# Altium schematic symbol library INDUCTOR.SchLib: 1 symbol
Pins are listed as number, name and electrical type; pins without a type are passive.

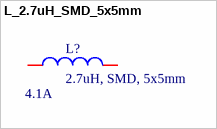
[diagram p0: symbol L_2.7uH_SMD_5x5mm]

## L_2.7uH_SMD_5x5mm
designator L?, comment 2.7uH, SMD, 5x5mm  Current Rating: 4.1A
4.1A 2.7uH ±20% Magnetic Shielded Inductor 5.1A SMD,5x5mm Power Inductors ROHS; Manufacturer: APV; Mfr. Part: ANR5040T2R7M; LCSC Part: C7427128; Package: SMD,5x5mm; Inductance: 2.7uH; Tolerance: ±20%; Link: https://www.lcsc.com/product-detail/C7427128.html?s_z=n_2.7uH; Current - Saturation(Isat): 5.1A
footprint SMD, 5x5mm
pins: 1, 2